# Altium footprint library switch.PcbLib: 21 footprints (part 1 of 2)
Each footprint in its own frame and in the unit in brackets; x right, y up, seen from the top. Pads: shape width x height; smd on the part's side, far side on the other; paste and mask are expansions set on the pad; w line width, h text height; cw(c..) or ccw(c..) is an arc to the next point about the centre after c.
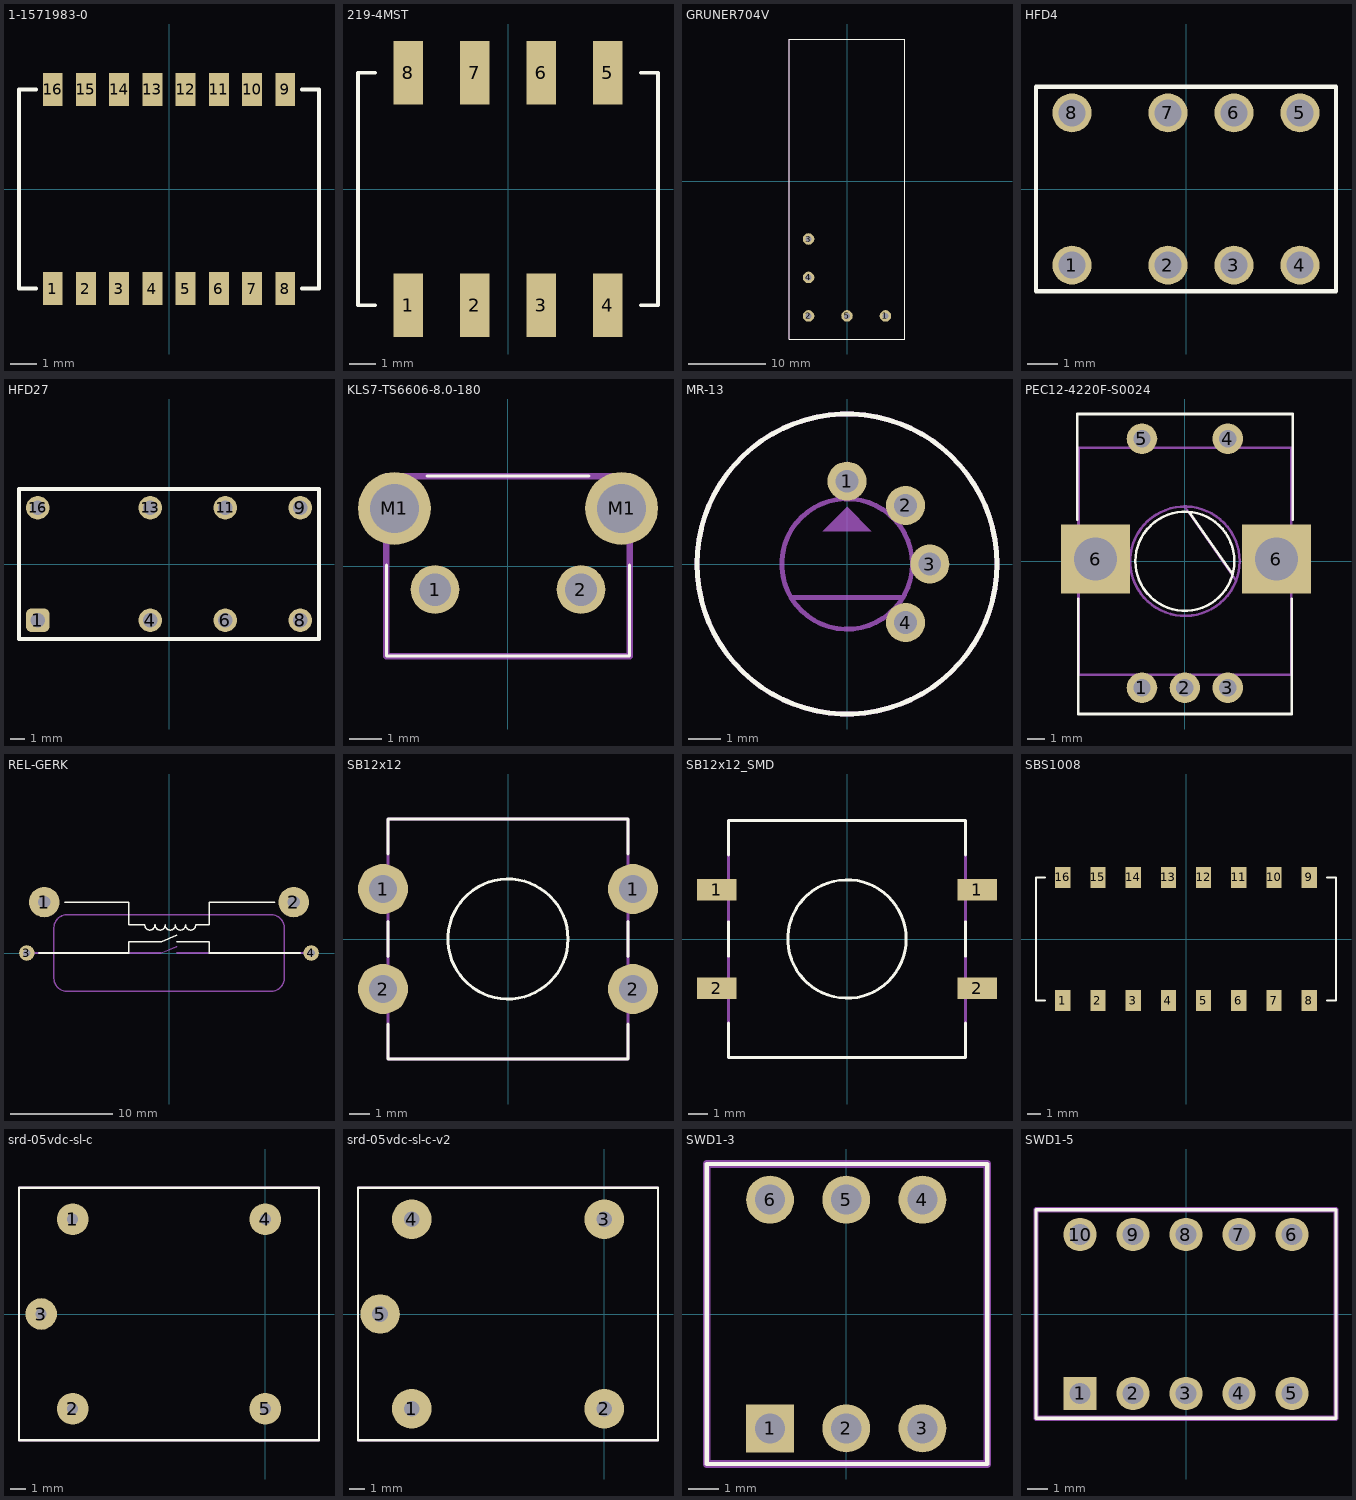
[diagram p0: the footprints below, top view; thin cyan lines are the x and y axes]

## 1-1571983-0 [mm]
pads (16):
  rect 0.76x1.27 smd: 1(-4.445,-3.81) 2(-3.175,-3.81) 3(-1.905,-3.81) 4(-0.635,-3.81) 5(0.635,-3.81) 6(1.905,-3.81) 7(3.175,-3.81) 8(4.445,-3.81) 9(4.445,3.81) 10(3.175,3.81) 11(1.905,3.81) 12(0.635,3.81) 13(-0.635,3.81) 14(-1.905,3.81) 15(-3.175,3.81) 16(-4.445,3.81)
Top Overlay:
  lines w0.15: -5.08,-3.81 -5.736,-3.81 -5.736,3.81 -5.08,3.81 ; 5.08,-3.81 5.736,-3.81 5.736,3.81 5.08,3.81
  text "." at -5.715,-4.445 h0.1
3D body "c-1571983-10-b-3d.stp": height 2.35, standoff 0.04, extent -5.617,-4.109 5.66,4.019

## 219-4MST [mm]
pads (8):
  rect 1.12x2.44 smd: 1(-3.81,-4.445) 2(-1.27,-4.445) 3(1.27,-4.445) 4(3.81,-4.445) 5(3.81,4.445) 6(1.27,4.445) 7(-1.27,4.445) 8(-3.81,4.445)
Top Overlay:
  lines w0.15: -5.08,-4.445 -5.736,-4.445 -5.736,4.445 -5.08,4.445 ; 5.08,-4.445 5.736,-4.445 5.736,4.445 5.08,4.445
  text "." at -5.08,-5.715 h0.1
3D body "219-4MST.STEP": height 4.26, standoff -0.02, extent -5.85,-4.953 5.78,4.953

## GRUNER704V [mm]
height 34
pads (5):
  round 1.5 hole 0.8: 1(5,-17.5) 2(-5,-17.5) 3(-5,-7.5) 4(-5,-12.5) 5(0,-17.5)
Top Overlay:
  lines w0.15: -7.5,-20.5 7.5,-20.5 7.5,18.5 -7.5,18.5 -7.5,-20.5
Mechanical 29:
  lines w0.15: -7.5,-20.5 -7.5,18.5 7.5,18.5 7.5,-20.5 -7.5,-20.5
3D body "reley704V.STEP": height 32.4, standoff -5.9, extent -12.9,-20.5 7.5,48

## HFD4 [mm] "6.5x10x5.4"
height 5
pads (8):
  round 1.3 hole 0.9: 1(-3.8,-2.54) 2(-0.6,-2.54) 3(1.6,-2.54) 4(3.8,-2.54) 5(3.8,2.54) 6(1.6,2.54) 7(-0.6,2.54) 8(-3.8,2.54)
Top Overlay:
  lines w0.15: -5,-3.4 5,-3.4 5,0 5,3.4 -5,3.4 -5,0 -5,-3.4
  text "." at -4.5,-4 h0.1
3D body: height 5.4, standoff 0.3, extent -5,-3.25 5,3.25

## HFD27 [mm]
pads (8):
  rrect50% 1.6x1.6 hole 1: 1(-8.89,-3.81)
  round 1.6 hole 1: 4(-1.27,-3.81) 6(3.81,-3.81) 8(8.89,-3.81) 9(8.89,3.81) 11(3.81,3.81) 13(-1.27,3.81) 16(-8.89,3.81)
Top Overlay:
  lines w0.254: -10.16,-5.08 10.16,-5.08 10.16,5.08 -10.16,5.08 -10.16,-5.08
  text "." at -8.89,-5.715 h0.1
3D body: height 11.5, standoff 0.5, extent -10.16,-5.08 10.16,5.08

## KLS7-TS6606-8.0-180 [mm]
pads (4):
  round 1.5 hole 1: 1(-2.25,-0.725) 2(2.25,-0.725)
  round 2.25 hole 1.5: M1(-3.5,1.775) M1(3.5,1.775)
Top Overlay:
  lines w0.1: -3.75,0.025 -3.75,-2.775 3.75,-2.775 3.75,0.025 ; -2.5,2.775 2.5,2.775
Mechanical 13:
  lines w0.2: -3.75,-2.775 -3.75,2.775 3.75,2.775 3.75,-2.775 -3.75,-2.775
3D body: height 5.7, standoff 2.3, extent -1.7,-8.075 1.7,-2.775
3D body "KLS7-TS6606-8.0-180.stp": height 8.1, standoff -5, extent -4.15,-2.775 4.15,2.775

## MR-13 [mm]
height 15
pads (4):
  round 1.2 hole 0.7: 1(0,2.54) 2(1.796,1.796) 3(2.54,0) 4(1.796,-1.796)
Top Overlay:
  circle w0.15: c0,0 r4.6
  text "." at 0,5.08 h0.1
Mechanical 29:
  circle w0.15: c0,0 r2
  circle w0.15: c0,0 r4.6
  region: 0,1.75 -0.75,1 0.75,1
  lines w0.15: -1.725,-1.025 1.725,-1.025
3D body "MR-13.STEP": height 14.5, standoff -3.2, extent -4.6,-4.6 4.6,5.273

## PEC12-4220F-S0024 [mil]
height 944.88
pads (7):
  round 70 hole 40: 1(-98.43,-290) 2(0,-290) 3(98.43,-290) 4(98.43,280.87) 5(-98.43,280.87)
  rect 157.48x157.48 hole 98.43: 6(-205,5) 6(210,5)
Top Overlay:
  circle w5.91: c0,0 r113.62
  lines w5.91: -247.05,95.47 -247.05,337.6 0,337.6 247.05,337.6 247.05,95.47 ; -245.08,-86.61 -245.08,-350.39 0,-350.39 245.08,-350.39 245.08,-86.61 ; 9.97,112.59 109.25,-29.53
Mechanical 29:
  circle w5.91: c0,0 r125.47
  lines w5.91: -0.98,125.98 116.14,-42.32 ; -244,-260 244,-260 244,260 -244,260 -244,-260
3D body "PEC12-4220F-S0024.STEP": height 720.47, standoff -101.48, extent -243.19,-279.53 245,279.53

## REL-GERK [mm]
height 14
pads (4):
  round 3 hole 1.2: 1(-12.25,5) 2(12.25,5)
  round 1.524 hole 0.7: 3(-13.97,0) 4(13.97,0)
Top Overlay:
  lines w0.15: -12.8,0 -3.95,0 -3.95,1.125 -0.75,1.125 0.75,1.75 ; -10.25,5 -3.95,5 -3.95,2.775 -2.375,2.775 -2.375,2.75 ccw(c-1.875,2.75) -1.375,2.75 ccw(c-0.875,2.75) -0.375,2.75 ccw(c0.125,2.75) 0.625,2.75 ccw(c1.125,2.75) 1.625,2.75 ccw(c2.125,2.75) 2.625,2.75 2.625,2.775 3.95,2.775 3.95,5 10.4,5 ; 0.75,1.125 3.95,1.125 3.95,0 12.875,0
Mechanical 29:
  lines w0.15: -13.965,0 -3.945,0 -0.745,0 0.755,0.625 ; -11.305,0 -11.305,-2.48 ccw(c-10.035,-2.48) -10.035,-3.75 -0.005,-3.75 ; -11.3,0 -11.3,2.48 cw(c-10.03,2.48) -10.03,3.75 0,3.75 ; 0.01,-3.75 10.04,-3.75 ccw(c10.04,-2.48) 11.31,-2.48 11.31,0 11.31,2.48 ccw(c10.04,2.48) 10.04,3.75 0.01,3.75 ; 0.755,0 3.955,0 13.975,0

## SB12x12 [mm]
height 15
pads (4):
  round 2.5 hole 1.4: 1(-6.25,2.5) 1(6.25,2.5) 2(-6.25,-2.5) 2(6.25,-2.5)
Top Overlay:
  circle w0.15: c0,0 r3
  lines w0.15: -6,-4.25 -6,-6 0,-6 6,-6 6,-4.25 ; -6,-0.875 -6,0 -6,0.875 ; -6,4.25 -6,6 0,6 6,6 6,4.25 ; 6,-0.875 6,0 6,0.875
Mechanical 29:
  lines w0.15: -6,-6 6,-6 6,6 -6,6 -6,-6
3D body "KLS7-TS1204-7.3-180.STEP": height 7.8, standoff -3, extent -6.755,-6 6.755,6

## SB12x12_SMD [mm]
height 15
pads (4):
  rect 2x1.1 smd: 1(-6.6,2.5) 1(6.6,2.5) 2(-6.6,-2.5) 2(6.6,-2.5)
Top Overlay:
  circle w0.15: c0,0 r3
  lines w0.15: -6,-4.25 -6,-6 0,-6 6,-6 6,-4.25 ; -6,-0.875 -6,0 -6,0.875 ; -6,4.25 -6,6 0,6 6,6 6,4.25 ; 6,-0.875 6,0 6,0.875
Mechanical 29:
  lines w0.15: -6,-6 6,-6 6,6 -6,6 -6,-6
3D body "KAN1211-1201B.STEP": height 18.3, standoff 0, extent -6.45,-5.975 6.45,6.025

## SBS1008 [mm]
pads (16):
  rect 1.1x1.5 smd: 1(-8.89,-4.445) 2(-6.35,-4.445) 3(-3.81,-4.445) 4(-1.27,-4.445) 5(1.27,-4.445) 6(3.81,-4.445) 7(6.35,-4.445) 8(8.89,-4.445) 9(8.89,4.445) 10(6.35,4.445) 11(3.81,4.445) 12(1.27,4.445) 13(-1.27,4.445) 14(-3.81,4.445) 15(-6.35,4.445) 16(-8.89,4.445)
Top Overlay:
  lines w0.15: -10.16,-4.445 -10.816,-4.445 -10.816,4.445 -10.16,4.445 ; 10.16,-4.445 10.816,-4.445 10.816,4.445 10.16,4.445
  text "." at -10.16,-5.08 h0.1
3D body "SBS 1008.stp": height 3.87, standoff -0.02, extent -10.647,-4.916 10.613,4.884

## srd-05vdc-sl-c [mm]
height 14
pads (5):
  round 2 hole 0.7: 1(-12.2,6) 2(-12.2,-6) 3(-14.2,0) 4(0,6) 5(0,-6)
Top Overlay:
  lines w0.15: -15.6,-8 -15.6,8 3.4,8 3.4,-8 -15.6,-8
  text "." at -13.335,8.89 h0.1
Mechanical 29:
  lines w0.15: -15.6,-8 -15.6,8 3.4,8 3.4,-8 -15.6,-8
3D body: height 14, standoff 0.5, extent -15.675,-8.075 3.475,8.075

## srd-05vdc-sl-c-v2 [mm]
height 14
pads (5):
  round 2.5 hole 1: 1(-12.2,-6) 2(0,-6) 3(0,6) 4(-12.2,6) 5(-14.2,0)
Top Overlay:
  lines w0.15: -15.6,-8 -15.6,8 3.4,8 3.4,-8 -15.6,-8
  text "." at -12.7,-8.89 h0.1
Mechanical 29:
  lines w0.15: -15.6,-8 -15.6,8 3.4,8 3.4,-8 -15.6,-8
3D body: height 14, standoff 0.5, extent -15.675,-8.075 3.475,8.075

## SWD1-3 [mm]
pads (6):
  rect 1.6x1.6 hole 1: 1(-2.54,-3.81)
  round 1.6 hole 1: 2(0,-3.81) 3(2.54,-3.81) 4(2.54,3.81) 5(0,3.81) 6(-2.54,3.81)
Top Overlay:
  lines w0.15: -4.65,-5 -4.65,5 4.7,5 4.7,-5 -4.65,-5
  text "." at -3.81,-5.715 h0.1
Top Courtyard:
  lines w0.254: -4.65,-5 4.7,-5 4.7,5 -4.65,5 -4.65,-5
3D body: height 8, standoff 6.9, extent 1.905,-1.905 3.175,1.905
3D body: height 8, standoff 6.9, extent -0.635,-1.905 0.635,1.905
3D body: height 6.9, standoff 0, extent -4.65,-5 4.7,5
3D body: height 8, standoff 6.9, extent -3.175,-1.905 -1.905,1.905

## SWD1-5 [mm]
pads (10):
  rect 1.6x1.6 hole 1: 1(-5.09,-3.81)
  round 1.6 hole 1: 2(-2.55,-3.81) 3(-0.01,-3.81) 4(2.53,-3.81) 5(5.07,-3.81) 6(5.07,3.81) 7(2.53,3.81) 8(-0.01,3.81) 9(-2.55,3.81) 10(-5.09,3.81)
Top Overlay:
  lines w0.15: -7.2,-5 -7.2,5 7.18,5 7.18,-5 -7.2,-5
  text "." at -6.36,-5.715 h0.1
Top Courtyard:
  lines w0.254: -7.2,-5 7.18,-5 7.18,5 -7.2,5 -7.2,-5
3D body: height 8, standoff 6.9, extent 4.435,-1.905 5.705,1.905
3D body: height 8, standoff 6.9, extent 1.895,-1.905 3.165,1.905
3D body: height 8, standoff 6.9, extent -0.645,-1.905 0.625,1.905
3D body: height 8, standoff 6.9, extent -3.185,-1.905 -1.915,1.905
3D body: height 6.9, standoff 0, extent -7.2,-5 7.18,5
3D body: height 8, standoff 6.9, extent -5.725,-1.905 -4.455,1.905